# Altium schematic symbol library TPS7A8001.SchLib: 1 symbol
Pins are listed as number, name and electrical type; pins without a type are passive.

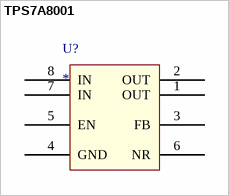
[diagram p0: symbol TPS7A8001]

## TPS7A8001
designator U?
pins: 1 OUT, 2 OUT, 3 FB, 4 GND, 5 EN, 6 NR, 7 IN, 8 IN